# Altium footprint library BuckConverter .PcbLib: 2 footprints
Each footprint in its own frame and in the unit in brackets; x right, y up, seen from the top. Pads: shape width x height; smd on the part's side, far side on the other; paste and mask are expansions set on the pad; w line width, h text height; cw(c..) or ccw(c..) is an arc to the next point about the centre after c.
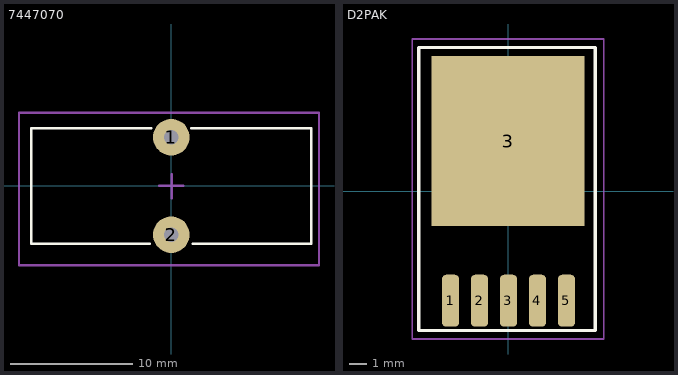
[diagram p0: the footprints below, top view; thin cyan lines are the x and y axes]

## 7447070 [mm]
pads (2):
  round 3 hole 1.2: 1(0,4) 2(0,-4)
Top Overlay:
  lines w0.2: -1.75,-4.75 -11.5,-4.75 -11.5,4.75 -1.625,4.75 ; 1.625,4.75 11.5,4.75 11.5,-4.75 1.75,-4.75
Mechanical 15:
  lines w0.2: -1,0 0,0 1,0 ; 0.03,-1.02 0.03,-0.02 0.03,0.98 ; -12.5,-6.5 -12.5,6 -11.875,6 12.125,6 12.125,-6.5 -12.5,-6.5
3D body "7447070_Download_STP_7447070_rev1.stp": height 22.31, standoff -14.59, extent -11.209,-4.499 11.209,4.499

## D2PAK [mm]
pads (6):
  rrect50% 1.016x3.05 smd: 1(-3.404,-6.438) 2(-1.702,-6.438) 3(0,-6.438) 4(1.702,-6.438) 5(3.404,-6.438)
  rect 9x10 smd: 3(-0.029,2.937)
Top Overlay:
  lines w0.2: -5.279,-8.187 -5.279,8.438 5.096,8.438 5.096,-8.187 -5.279,-8.187
Mechanical 15:
  lines w0.1: -1,0 0,0 ; 0,-1 0,0 ; 0,1 0,0 ; 1,0 0,0 ; -5.654,-8.687 -5.654,8.938 5.596,8.938 5.596,-8.687 -5.654,-8.687
3D body "TO263-5-1.stp": height 4.22, standoff 0, extent -4.969,-6.873 4.853,7.729